# EAGLE library part SIP-6_ (library NVSL)
Generic single row in-line pin header or receptacle, 6 pin, 2.54 mm or 2mm pin spacing etc., male and female versions, shrouded or not, verticle or right angle
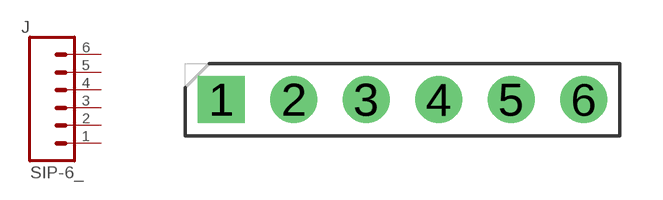
[diagram p16: symbol with the pads of HDRV6W63P254_6X1_1524X254H838_HS; footprint HDRV6W63P254_6X1_1524X254H838_HS]

Designator prefix J

## SIP-6_2.54-SPACE-VERTICAL  [HDRV6W63P254_6X1_1524X254H838_HS]
1  1  pas
2  2  pas
3  3  pas
4  4  pas
5  5  pas
6  6  pas

## Footprint HDRV6W63P254_6X1_1524X254H838_HS (pad centres in mm)
Header, Vertical, 2.54 mm pitch; 0.635 mm lead width, 6 pins, 1 row, 6 pins per row, 15.24 mm L X 2.54 mm W X 8.38 mm H body PCB Libraries Packages
drill 1.1 pad 1.65 square: 1 0,0
drill 1.1 pad 1.65: 2 2.54,0; 3 5.08,0; 4 7.62,0; 5 10.16,0; 6 12.7,0